# Altium footprint library Toygether_PcbLib.PcbLib: 42 footprints (part 2 of 3)
Each footprint in its own frame and in the unit in brackets; x right, y up, seen from the top. Pads: shape width x height; smd on the part's side, far side on the other; paste and mask are expansions set on the pad; w line width, h text height; cw(c..) or ccw(c..) is an arc to the next point about the centre after c.
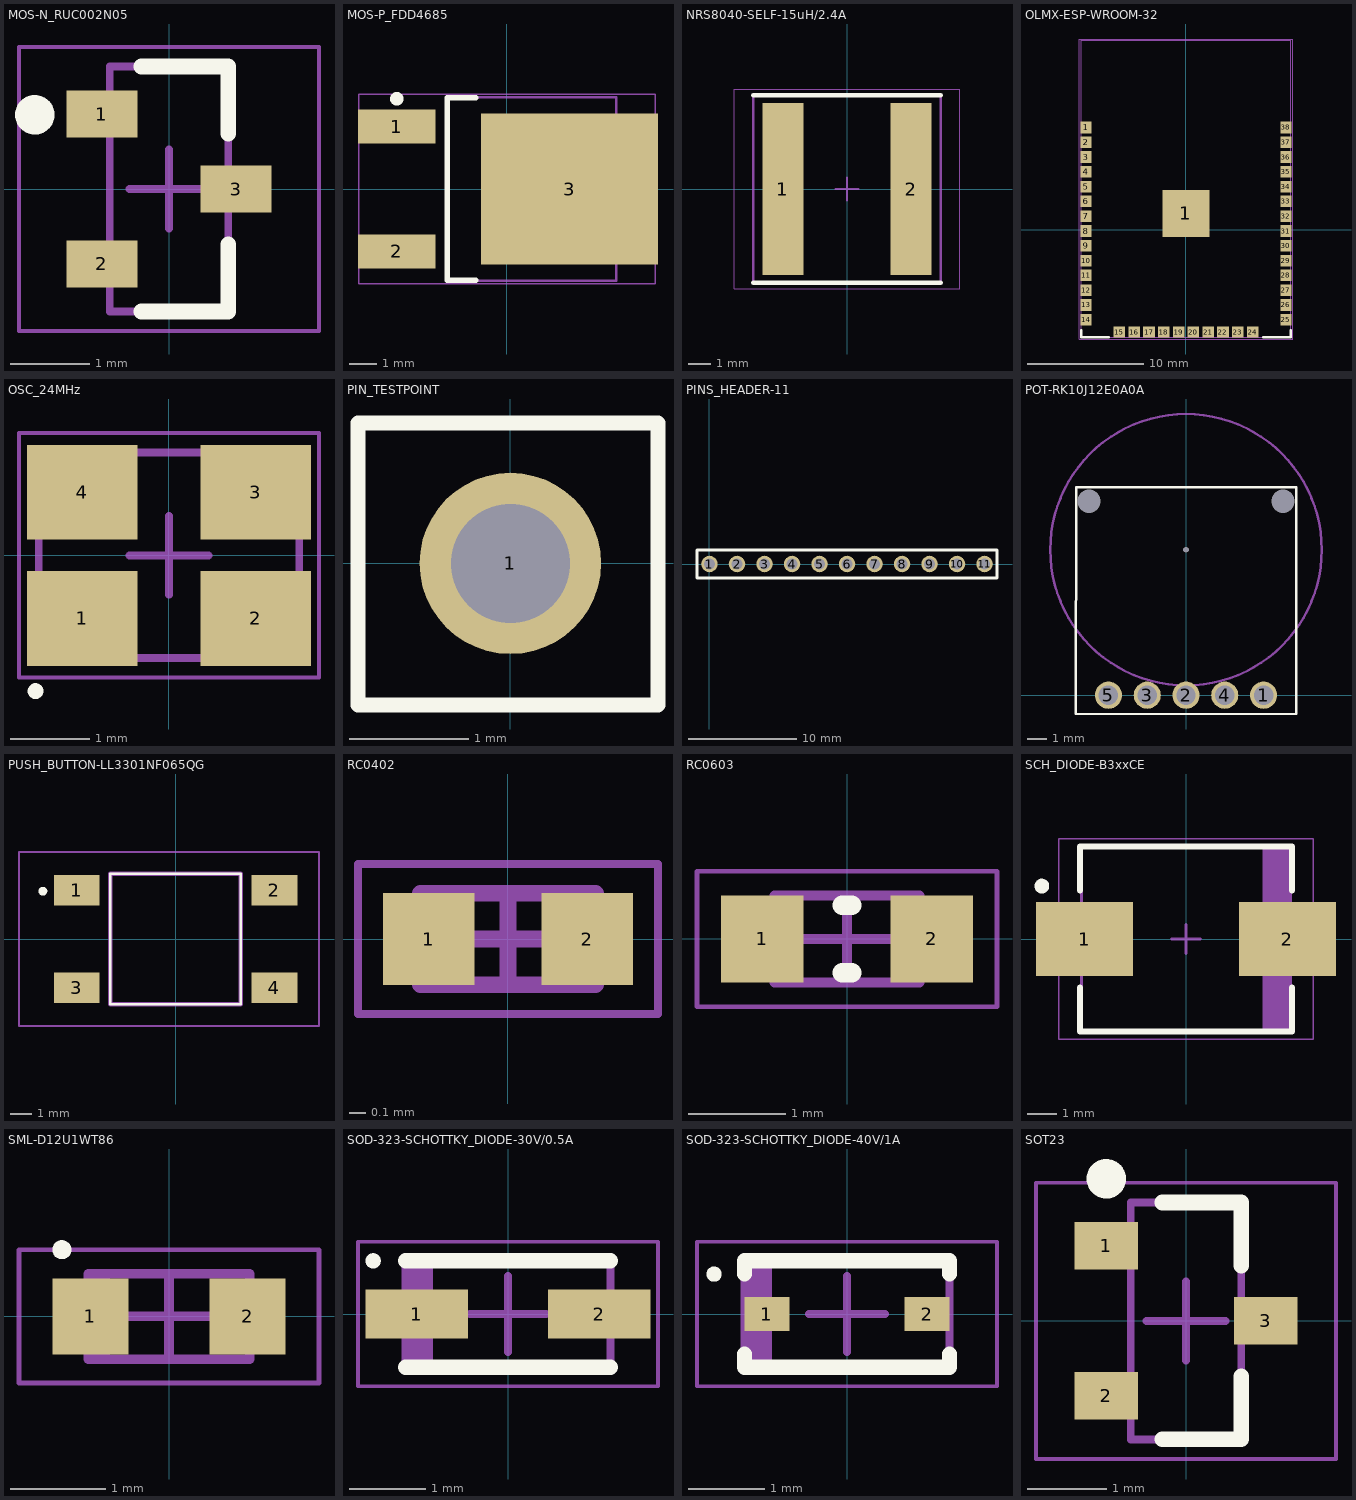
[diagram p1: the footprints below, top view; thin cyan lines are the x and y axes]

## MOS-N_RUC002N05 [mm] "SOT23, 3-Leads, Body 2.90x2.40mm, Pitch 0.95mm, IPC Medium Density"
height 1.2
pads (3):
  rect 0.9x0.6 smd: 1(-0.85,0.95) 2(-0.85,-0.95) 3(0.85,0)
Top Overlay:
  circle w0.25: c-1.7,0.94 r0.125
  lines w0.2: -0.35,-1.55 0.75,-1.55 0.75,-0.7 ; -0.35,1.55 0.75,1.55 0.75,0.7
Mechanical 13:
  lines w0.1: -0.75,-1.55 -0.75,1.55 0.75,1.55 0.75,-1.55 -0.75,-1.55
Mechanical 15:
  lines w0.05: -1.9,-1.8 -1.9,1.8 1.9,1.8 1.9,-1.8 -1.9,-1.8
  lines w0.1: -0.5,0 0.5,0 ; 0,-0.5 0,0.5
3D body "MOS-N.step": height 1.2, standoff 0, extent -1.3,-1.55 1.3,1.55

## MOS-P_FDD4685 [mm] "DPAK, 3-Leads, Body 6.75x6.22mm, Pitch 2.29mm, IPC High Density"
height 2.39
pads (3):
  rect 2.85x1.25 smd: 1(-4.05,2.29) 2(-4.05,-2.29)
  rect 6.5x5.55 smd: 3(2.3,0)
Top Overlay:
  circle w0.25: c-4.05,3.315 r0.125
  lines w0.2: -1.15,-3.35 -2.2,-3.35 -2.2,3.35 -1.15,3.35
Mechanical 13:
  lines w0.1: -2.2,-3.375 4.02,-3.375 4.02,3.375 -2.2,3.375 -2.2,-3.375
Mechanical 15:
  lines w0.05: -5.45,-3.475 5.45,-3.475 5.45,3.475 -5.45,3.475 -5.45,-3.475
  lines w0.1: -0.5,0 0.5,0 ; 0,-0.5 0,0.5
3D body "DPAK229P990X239-3L.step": height 2.39, standoff 0, extent -4.405,-3.295 5.5,3.455

## NRS8040-SELF-15uH/2.4A [mm] "Precision Wire Wound Inductor, 2-Leads, Body 8,00x8,00mm, IPC Medium Density"
height 4
pads (2):
  rect 1.8x7.5 smd: 1(-2.8,0) 2(2.8,0)
Top Overlay:
  lines w0.2: -4.1,-4.1 4.1,-4.1 ; -4.1,4.1 4.1,4.1
Mechanical 13:
  lines w0.1: -4.1,-4.1 4.1,-4.1 4.1,4.1 -4.1,4.1 -4.1,-4.1
Mechanical 15:
  lines w0.05: -4.925,-4.35 4.925,-4.35 4.925,4.35 -4.925,4.35 -4.925,-4.35
  lines w0.1: -0.5,0 0.5,0 ; 0,-0.5 0,0.5
3D body "NRS8040.step": height 4.1, standoff 0, extent -4.1,-4 4.1,4

## OLMX-ESP-WROOM-32 [mm] "SMD, 38-Leads, Body 18x25.5mm, Pitch 1.27mm"
height 3.25
pads (39):
  rect 0.95x1 smd: 1(-8.575,8.78) 2(-8.575,7.51) 3(-8.575,6.24) 4(-8.575,4.97) 5(-8.575,3.7) 6(-8.575,2.43) 7(-8.575,1.16) 8(-8.575,-0.11) 9(-8.575,-1.38) 10(-8.575,-2.65) 11(-8.575,-3.92) 12(-8.575,-5.19) 13(-8.575,-6.46) 14(-8.575,-7.73) 25(8.575,-7.73) 26(8.575,-6.46) 27(8.575,-5.19) 28(8.575,-3.92) 29(8.575,-2.65) 30(8.575,-1.38) 31(8.575,-0.11) 32(8.575,1.16) 33(8.575,2.43) 34(8.575,3.7) 35(8.575,4.97) 36(8.575,6.24) 37(8.575,7.51) 38(8.575,8.78)
  rect 4x4 smd: 1(0,1.395)
  rect 1x0.95 smd: 15(-5.715,-8.78) 16(-4.445,-8.78) 17(-3.175,-8.78) 18(-1.905,-8.78) 19(-0.635,-8.78) 20(0.635,-8.78) 21(1.905,-8.78) 22(3.175,-8.78) 23(4.445,-8.78) 24(5.715,-8.78)
Top Overlay:
  lines w0.2: -9,-8.63 -9,-9.23 -6.615,-9.23 ; 6.615,-9.23 9,-9.23 9,-8.63
Mechanical 13:
  lines w0.1: -9,-9.23 -9,16.27 9,16.27 9,-9.23 -9,-9.23
Mechanical 15:
  lines w0.05: -9.15,-9.38 9.15,-9.38 9.15,16.37 -9.15,16.37 -9.15,-9.38
  lines w0.1: -0.5,0 0.5,0 ; 0,-0.5 0,0.5
3D body "User Library-esp-wroom-32.STEP": height 3.04, standoff 0, extent -9.035,-9.25 9.035,16.29

## OSC_24MHz [mm] "ECS-3225MV SMD Multi Volt Crystal Oscillator"
height 1.2
pads (4):
  rect 1.4x1.2 smd: 1(-1.1,-0.8) 2(1.1,-0.8) 3(1.1,0.8) 4(-1.1,0.8)
Top Overlay:
  circle w0.1: c-1.69,-1.72 r0.05
Mechanical 13:
  lines w0.1: -1.65,-1.3 1.65,-1.3 1.65,1.3 -1.65,1.3 -1.65,-1.3
Mechanical 15:
  lines w0.05: -1.9,-1.55 1.9,-1.55 1.9,1.55 -1.9,1.55 -1.9,-1.55
  lines w0.1: -0.5,0 0.5,0 ; 0,-0.5 0,0.5
3D body: height 1.2, standoff 0, extent -1.65,-1.3 1.65,1.3

## PIN_TESTPOINT [mil]
pads (1):
  round 60 hole 39.37: 1(0,0)
Top Overlay:
  lines w5: -50.39,-46.85 -50.39,46.46 48.82,46.46 48.82,-46.85 -50.39,-46.85

## PINS_HEADER-11 [mil]
pads (11):
  round 60 hole 39.37: 1(0,0) 2(100,0) 3(200,0) 4(300,0) 5(400,0) 6(500,0) 7(600,0) 8(700,0) 9(800,0) 10(900,0) 11(1000,0)
Top Overlay:
  lines w10: -45.43,-51.18 1045.28,-51.18 1045.28,51.18 -45.28,51.18 -45.43,51.02 -45.43,-51.18

## POT-RK10J12E0A0A [mm]
height 1.8
pads (8):
  rect 0x0 hole 1.2 square: 1(-5,10) 1(5,10)
  round 0 hole 0.3: 1(0,7.5)
  round 1.4 hole 1: 1(4,0) 2(0,0) 3(-2,0) 4(2,0) 5(-4,0)
Top Overlay:
  lines w0.127: 5.664,-0.97 -5.686,-0.97 -5.658,10.72 5.68,10.72 5.68,-0.97
Mechanical 4:
  circle w0.127: c0,7.5 r7

## PUSH_BUTTON-LL3301NF065QG [mm]
height 4.3
pads (4):
  rect 2.1x1.4 smd: 1(-4.55,2.25) 2(4.55,2.25) 3(-4.55,-2.25) 4(4.55,-2.25)
Top Overlay:
  lines w0.1: -3,-3 -3,3 3,3 3,-3 -3,-3
  lines w0.2: -6.1,2.1 cw(c-6.1,2.2) -6.1,2.3 cw(c-6.1,2.2) -6.1,2.1
Mechanical 15:
  lines w0.2: -3,-3 -3,3 3,3 3,-3 -3,-3
Mechanical 20:
  lines w0.1: -7.2,-4 -7.2,4 6.6,4 6.6,-4 -7.2,-4
3D body "User Library-PTS645SL43SMTR92-LFS.STEP": height 4.3, standoff 0, extent -4.5,-3.004 4.5,2.996

## RC0402 [mm] "Chip Resistor, 2-Leads, Body 1,02x0,50mm, IPC Medium Density"
height 0.4
pads (2):
  rect 0.55x0.55 smd: 1(-0.475,0) 2(0.475,0)
Mechanical 13:
  lines w0.1: -0.525,-0.275 -0.525,0.275 0.525,0.275 0.525,-0.275 -0.525,-0.275
Mechanical 15:
  lines w0.05: -0.9,-0.45 -0.9,0.45 0.9,0.45 0.9,-0.45 -0.9,-0.45
  lines w0.1: -0.275,0 0.275,0 ; 0,-0.275 0,0.275
3D body "RESC1005X04N.step": height 0.4, standoff 0, extent -0.525,-0.275 0.525,0.275

## RC0603 [mm] "Chip Resistor, 2-Leads, Body 1.60x0.80mm, IPC Medium Density"
height 0.55
pads (2):
  rect 0.85x0.9 smd: 1(-0.875,0) 2(0.875,0)
Top Overlay:
  lines w0.2: -0.05,-0.35 0.05,-0.35 ; -0.05,0.35 0.05,0.35
Mechanical 13:
  lines w0.1: -0.75,-0.45 -0.75,0.45 0.75,0.45 0.75,-0.45 -0.75,-0.45
Mechanical 15:
  lines w0.05: -1.55,-0.7 -1.55,0.7 1.55,0.7 1.55,-0.7 -1.55,-0.7
  lines w0.1: -0.45,0 0.45,0 ; 0,-0.45 0,0.45
3D body: height 0.55, standoff 0, extent -0.5,-0.45 0.5,0.45
3D body: height 0.55, standoff 0, extent -0.75,-0.45 -0.5,0.45
3D body: height 0.55, standoff 0, extent 0.5,-0.45 0.75,0.45

## SCH_DIODE-B3xxCE [mm] "Molded Diode, 2-Leads, Body 6.86x5.91mm, IPC Medium Density"
height 2.5
pads (2):
  rect 3.3x2.5 smd: 1(-3.45,0) 2(3.45,0)
Top Overlay:
  circle w0.25: c-4.9,1.8 r0.125
  lines w0.2: -3.6,-1.65 -3.6,-3.15 3.6,-3.15 3.6,-1.65 ; -3.6,1.65 -3.6,3.15 3.6,3.15 3.6,1.65
Mechanical 13:
  rectangle: 2.599,-3.11 3.555,3.11
  lines w0.1: -3.555,-3.11 -3.555,3.11 3.555,3.11 3.555,-3.11 -3.555,-3.11
Mechanical 15:
  lines w0.05: -4.325,-3.4 -4.325,3.4 4.325,3.4 4.325,-3.4 -4.325,-3.4
  lines w0.1: -0.5,0 0.5,0 ; 0,-0.5 0,0.5
3D body "SCH_DIOM6959X25N.step": height 2.5, standoff 0, extent -3.775,-3.11 3.775,3.11

## SML-D12U1WT86 [mm] "Molded Diode, 2-Leads, Body 1,60x0,80mm, IPC Medium Density"
height 0.65
pads (2):
  rect 0.8x0.8 smd: 1(-0.825,0) 2(0.825,0)
Top Overlay:
  circle w0.1: c-1.125,0.7 r0.05
Mechanical 13:
  rectangle: -0.85,-0.45 -0.621,0.45
  lines w0.1: -0.85,-0.45 0.85,-0.45 0.85,0.45 -0.85,0.45 -0.85,-0.45
Mechanical 15:
  lines w0.05: -1.575,-0.7 1.575,-0.7 1.575,0.7 -1.575,0.7 -1.575,-0.7
  lines w0.1: -0.45,0 0.45,0 ; 0,-0.45 0,0.45
3D body "SML-D12U1WT86.step": height 0.65, standoff 0, extent -1.07,-0.45 1.07,0.45

## SOD-323-SCHOTTKY_DIODE-30V/0.5A [mm] "Molded Diode, 2-Leads, Body 2,50x1,30mm, IPC Medium Density"
height 1.1
pads (2):
  rect 1.35x0.65 smd: 1(-1.2,0) 2(1.2,0)
Top Overlay:
  circle w0.1: c-1.775,0.7 r0.05
  lines w0.2: -1.35,-0.7 1.35,-0.7 ; -1.35,0.7 1.35,0.7
Mechanical 13:
  rectangle: -1.35,-0.7 -0.987,0.7
  lines w0.1: -1.35,-0.7 1.35,-0.7 1.35,0.7 -1.35,0.7 -1.35,-0.7
Mechanical 15:
  lines w0.05: -1.975,-0.95 1.975,-0.95 1.975,0.95 -1.975,0.95 -1.975,-0.95
  lines w0.1: -0.5,0 0.5,0 ; 0,-0.5 0,0.5
3D body "SOD-323.step": height 1.1, standoff 0, extent -1.57,-0.7 1.57,0.7

## SOD-323-SCHOTTKY_DIODE-40V/1A [mm]
pads (2):
  rect 0.59x0.45 smd: 1(-1.055,0) 2(1.055,0)
Top Overlay:
  circle w0.1: c-1.75,0.525 r0.05
  lines w0.2: -1.35,-0.525 -1.35,-0.7 1.35,-0.7 1.35,-0.525 ; -1.35,0.525 -1.35,0.7 1.35,0.7 1.35,0.525
Mechanical 13:
  rectangle: -1.35,-0.7 -0.987,0.7
  lines w0.1: -1.35,-0.7 1.35,-0.7 1.35,0.7 -1.35,0.7 -1.35,-0.7
Mechanical 15:
  lines w0.05: -1.975,-0.95 1.975,-0.95 1.975,0.95 -1.975,0.95 -1.975,-0.95
  lines w0.1: -0.5,0 0.5,0 ; 0,-0.5 0,0.5
3D body "CAPM3216X18N.step": height 1.1, standoff 0, extent -1.57,-0.7 1.57,0.7

## SOT23 [mm] "SOT23, 3-Leads, Body 2,90x2,40mm, Pitch 0,95mm, IPC Medium Density"
height 1.1
pads (3):
  rect 0.8x0.6 smd: 1(-1.01,0.95) 2(-1.01,-0.95) 3(1.01,0)
Top Overlay:
  circle w0.25: c-1.01,1.8 r0.125
  lines w0.2: -0.3,-1.5 0.7,-1.5 0.7,-0.7 ; -0.3,1.5 0.7,1.5 0.7,0.7
Mechanical 13:
  lines w0.1: -0.7,-1.5 -0.7,1.5 0.7,1.5 0.7,-1.5 -0.7,-1.5
Mechanical 15:
  lines w0.05: -1.9,-1.75 -1.9,1.75 1.9,1.75 1.9,-1.75 -1.9,-1.75
  lines w0.1: -0.5,0 0.5,0 ; 0,-0.5 0,0.5
3D body "SOT23.step": height 1.1, standoff 0, extent -1.275,-1.5 1.275,1.5